# Altium footprint library PWCSP-12(2.43X1.71).PcbLib: 1 footprints
Each footprint in its own frame and in the unit in brackets; x right, y up, seen from the top. Pads: shape width x height; smd on the part's side, far side on the other; paste and mask are expansions set on the pad; w line width, h text height; cw(c..) or ccw(c..) is an arc to the next point about the centre after c.
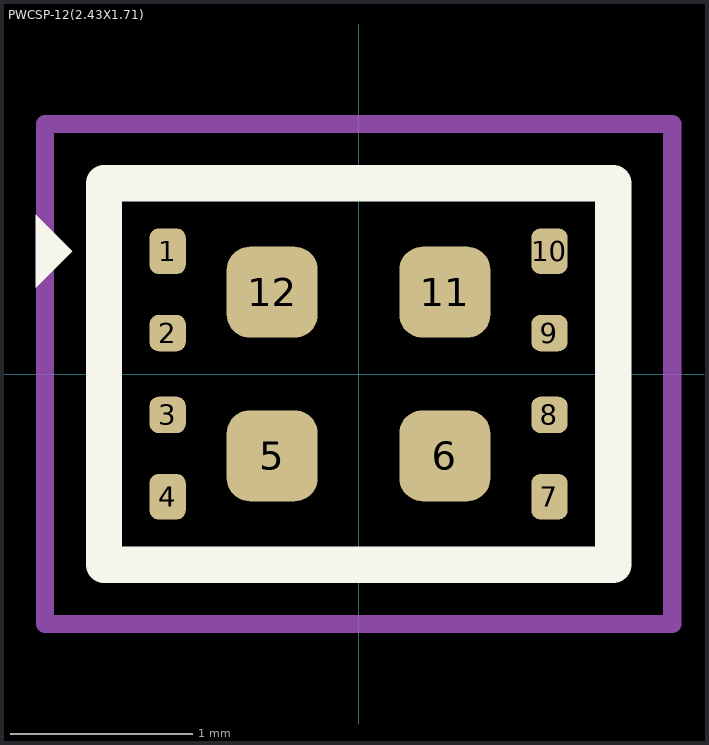
[diagram p0: the footprint, top view; thin cyan lines are the x and y axes]

## PWCSP-12(2.43X1.71) [mm]
pads (12):
  rrect50% 0.2x0.25 smd: 1(-1.05,0.675) 4(-1.05,-0.675) 7(1.05,-0.675) 10(1.05,0.675)
  rrect50% 0.2x0.2 smd: 2(-1.05,0.225) 3(-1.05,-0.225) 8(1.05,-0.225) 9(1.05,0.225)
  rrect50% 0.5x0.5 smd: 5(-0.475,-0.45) 6(0.475,-0.45) 11(0.475,0.45) 12(-0.475,0.45)
Top Overlay:
  region: -1.775,0.475 -1.775,0.875 -1.575,0.675
  lines w0.2: -1.4,-1.05 -1.4,1.05 1.4,1.05 1.4,-1.05 -1.4,-1.05
Top Courtyard:
  lines w0.1: -1.725,-1.375 1.725,-1.375 1.725,1.375 -1.725,1.375 -1.725,-1.375
3D body "TPS259481LYWPR.stp": height 0.48, standoff 0, extent -1.226,-0.869 1.226,0.869